# Altium schematic symbol library KP-2012SGC.SchLib: 1 symbol
Pins are listed as number, name and electrical type; pins without a type are passive.

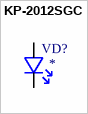
[diagram p0: symbol KP-2012SGC]

## KP-2012SGC
designator VD?
LED SMD 0805 size, Green.; MF: Kingbright; MP: KP-2012SGC; Check_prices: *; SnapEDA_Link: *; Availability: Unavailable; Package: 0805; Price: None; Value: *
footprint LED_APHCM2012SURCK-F01
pins: 1, 2